# EAGLE library part LP3879 (library texas-instruments)
LP3879 - Micropower 800mA Low Noise "Ceramic Stable" Voltage Regulator for Low Voltage Applications The LP3879 is a 800 mA fixed-output voltage regulator designed to provide high performance and low noise in applications requiring output voltages between 1.0V and 1.2V. Using an optimized VIP (Vertically Integrated PNP) process, the LP3879 delivers superior performance: Ground Pin Current: Typically 5.5 mA @ 800 mA load, and 200 µA @ 100 µA load. Low Power Shutdown: The LP3879 draws less than 10 μA quiescent current when shutdown pin is pulled low. Precision Output: Ensured output voltage accuracy is 1% at room temperature. Low Noise: Broadband output noise is only 18 μV (typical) with 10 nF bypass capacitor.
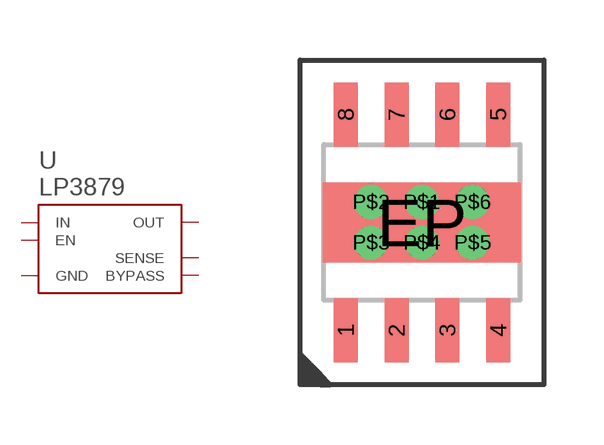
[diagram p15: symbol with the pads of PSOP-8-POWERPAD-DDA; footprint PSOP-8-POWERPAD-DDA]

Designator prefix U

## LP3879MR-1.0  [PSOP-8-POWERPAD-DDA]
1  BYPASS
3  GND  sup
4  IN  sup
5  OUT  pas
6  SENSE
8  EN
EP  GND  sup
P$1  GND  sup
P$2  GND  sup
P$3  GND  sup
P$4  GND  sup
P$5  GND  sup
P$6  GND  sup

## Footprint PSOP-8-POWERPAD-DDA (pad centres in mm)
smd 0.6 x 1.6: 1 -1.905,-2.7; 2 -0.635,-2.7; 3 0.635,-2.7; 4 1.905,-2.7; 5 1.905,2.7; 6 0.635,2.7; 7 -0.635,2.7; 8 -1.905,2.7
smd 4.95 x 2: EP 0,0
drill 0.33: P$1 0,0.508; P$2 -1.27,0.508; P$3 -1.27,-0.508; P$4 0,-0.508; P$5 1.27,-0.508; P$6 1.27,0.508